# EAGLE library part TA07-11HWA (library TA07-11HWA)
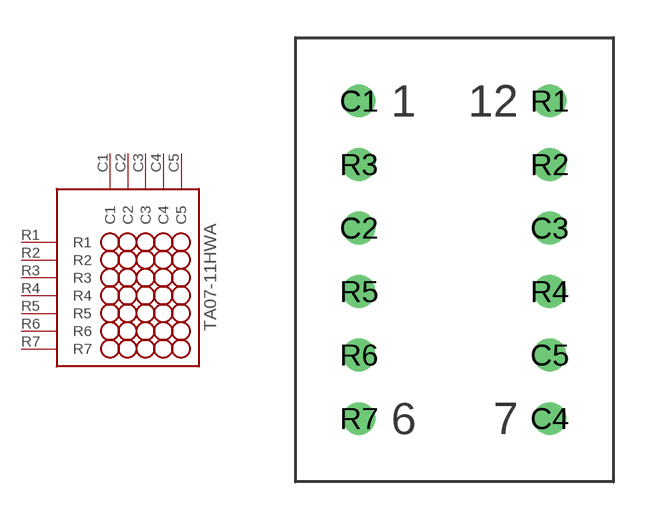
[diagram p0: symbol with the pads of DIL12; footprint DIL12]

Designator prefix -

## TA07-11HWADIL  [DIL12]
C1  C1  in
C2  C2  in
C3  C3  in
C4  C4  in
C5  C5  in
R1  R1  in
R2  R2  in
R3  R3  in
R4  R4  in
R5  R5  in
R6  R6  in
R7  R7  in

## Footprint DIL12 (pad centres in mm)
drill 0.8 round: C1 -3.81,13.97; C2 -3.81,8.89; C3 3.81,8.89; C4 3.81,1.27; C5 3.81,3.81; R1 3.81,13.97; R2 3.81,11.43; R3 -3.81,11.43; R4 3.81,6.35; R5 -3.81,6.35; R6 -3.81,3.81; R7 -3.81,1.27